# Altium footprint library CRHT-D000027.PcbLib: 23 footprints (part 1 of 2)
Each footprint in its own frame and in the unit in brackets; x right, y up, seen from the top. Pads: shape width x height; smd on the part's side, far side on the other; paste and mask are expansions set on the pad; w line width, h text height; cw(c..) or ccw(c..) is an arc to the next point about the centre after c.
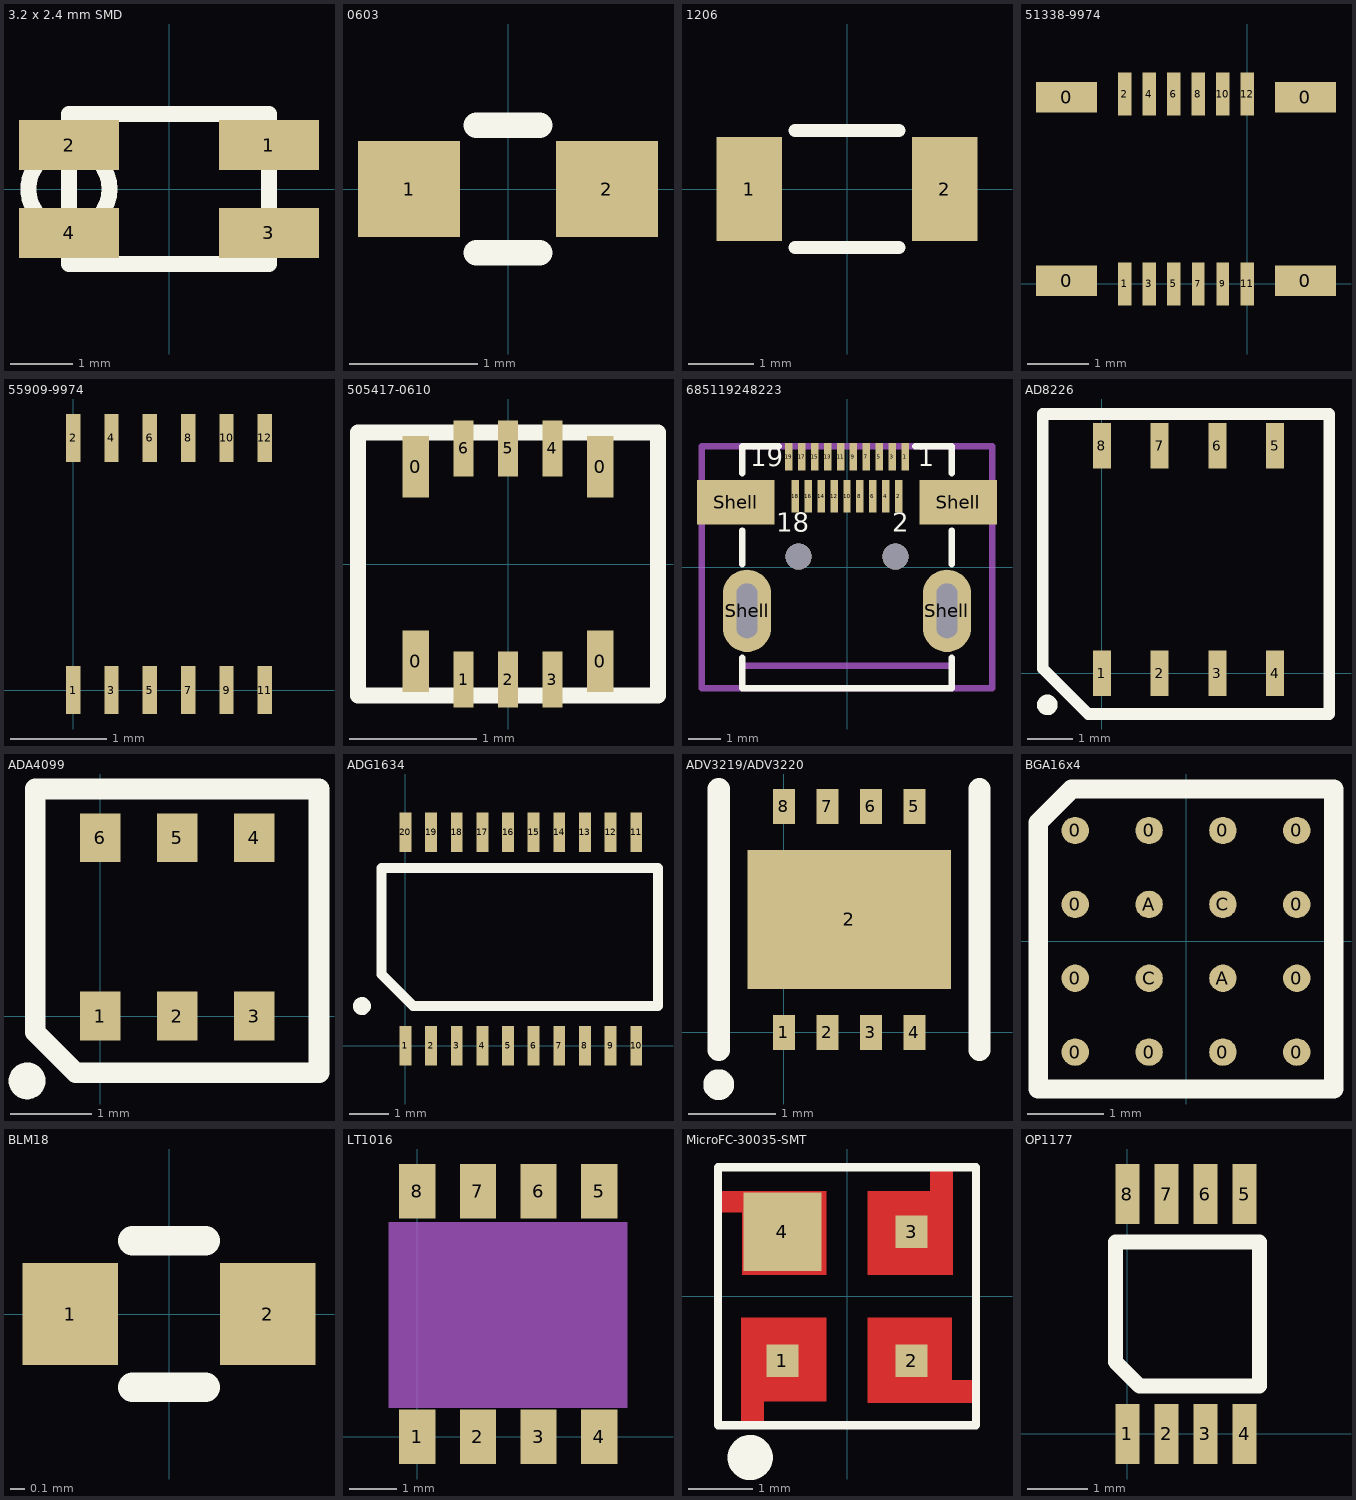
[diagram p0: the footprints below, top view; thin cyan lines are the x and y axes]

## 3.2 x 2.4 mm SMD [mm]
pads (4):
  rect 1.6x0.8 smd: 1(1.6,0.7) 2(-1.6,0.7) 3(1.6,-0.7) 4(-1.6,-0.7)
Top Overlay:
  circle w0.254: c-1.6,0 r0.65
  lines w0.254: -1.6,-1.2 1.6,-1.2 1.6,1.2 -1.6,1.2 -1.6,-1.2
3D body "CRHT-M000539 Rev01 - APBD3224ESGC-F01 3.2x2.4MM BI-COLOR RED-GRN SMD LED.STEP": height 2.41, standoff 0, extent -1.6,-1.25 1.6,1.15

## 0603 [mm]
pads (2):
  rect 0.8x0.75 smd: 1(-0.775,0) 2(0.775,0)
Top Overlay:
  lines w0.2: -0.25,-0.5 0.25,-0.5 ; -0.25,0.5 0.25,0.5

## 1206 [mm]
pads (2):
  rect 1x1.6 smd: 1(-1.5,0) 2(1.5,0)
Top Overlay:
  lines w0.2: -0.8,-0.9 0.8,-0.9 ; -0.8,0.9 0.8,0.9

## 51338-9974 [mm]
pads (16):
  rect 1x0.5 smd: 0(-2.95,0.05) 0(-2.95,3.05) 0(0.95,0.05) 0(0.95,3.05)
  rect 0.22x0.7 smd: 1(-2,0) 2(-2,3.1) 3(-1.6,0) 4(-1.6,3.1) 5(-1.2,0) 6(-1.2,3.1) 8(-0.8,3.1) 10(-0.4,3.1) 11(0,0) 12(0,3.1)
  rect 0.2x0.7 smd: 7(-0.8,0) 9(-0.4,0)

## 55909-9974 [mm]
pads (12):
  rect 0.15x0.5 smd: 1(0,0) 2(0,2.63) 3(0.4,0) 4(0.4,2.63) 5(0.8,0) 6(0.8,2.63) 7(1.2,0) 8(1.2,2.63) 9(1.6,0) 10(1.6,2.63) 11(2,0) 12(2,2.63)

## 505417-0610 [mm]
height 0.8
pads (10):
  rect 0.21x0.48 smd: 0(-0.725,-0.765) 0(-0.725,0.765) 0(0.725,-0.765) 0(0.725,0.765)
  rect 0.16x0.44 smd: 1(-0.35,-0.91) 2(0,-0.91) 3(0.35,-0.91) 4(0.35,0.91) 5(0,0.91) 6(-0.35,0.91)
Top Overlay:
  lines w0.127: -1.18,-1.035 -1.18,-0.321 -1.18,1.035 1.18,1.035 1.18,-1.035 -1.18,-1.035
3D body "5054170610.STEP": height 0.78, standoff -0.02, extent -1.18,-1 1.18,1

## 685119248223 [mm] "Micro HDMI Horizontal SMT Hybrid Mount"
height 3
pads (25):
  rect 0.23x0.85 smd: 1(1.8,3.425) 3(1.4,3.425) 5(1,3.425) 7(0.6,3.425) 9(0.2,3.425) 11(-0.2,3.425) 13(-0.6,3.425) 15(-1,3.425) 17(-1.4,3.425) 19(-1.8,3.425)
  rect 0.23x1 smd: 2(1.6,2.2) 4(1.2,2.2) 6(0.8,2.2) 8(0.4,2.2) 10(0,2.2) 12(-0.4,2.2) 14(-0.8,2.2) 16(-1.2,2.2) 18(-1.6,2.2)
  rect 2.4x1.38 smd: Shell(-3.45,2.02) Shell(3.45,2.02)
  oval 1.5x2.55 hole 0.65 slot 1.7 at 90 deg: Shell(-3.1,-1.35) Shell(3.1,-1.35)
  round 0.81 hole 0.81 unplated: ""(-1.5,0.33) ""(1.5,0.33)
Top Overlay:
  lines w0.2: -3.25,-2.81 -3.25,-3.75 3.25,-3.75 3.25,-2.81 ; -3.25,0.1 -3.25,1.14 ; -3.25,2.91 -3.25,3.75 -2.12,3.75 ; 2.12,3.75 3.25,3.75 3.25,2.91 ; 3.25,0.1 3.25,1.14
  text "2" at 1.4,0.9 h1.02
  text "18" at -2.2,0.9 h1.02
  text "19" at -3,2.938 h1.02
  text "1" at 2.2,2.938 h1.02
Mechanical 13:
  lines w0.2: -4.509,-3.75 4.509,-3.75 4.509,3.75 -4.509,3.75 -4.509,-3.75
Mechanical 15:
  lines w0.2: -3.25,-3.05 3.25,-3.05
  text "PCB Edge" at -1.794,-2.746 h0.89
3D body "685119248223.stp": height 2.99, standoff -1.11, extent -4.509,-3.75 4.509,3.755

## AD8226 [mm] "AD8226-BRZR8"
pads (8):
  rect 0.4x1 smd: 1(0,0) 2(1.27,0) 3(2.54,0) 4(3.81,0) 5(3.81,5) 6(2.54,5) 7(1.27,5) 8(0,5)
Top Overlay:
  circle w0.254: c-1.2,-0.7 r0.1
  lines w0.254: -1.3,0.1 -0.3,-0.9 5,-0.9 5,5.7 -1.3,5.7 -1.3,5.5 -1.3,0.1
Mechanical 1:
  region: -1.1,4.5
3D body: height 1.27, standoff 0, extent -1.15,0.5 4.85,4.5

## ADA4099 [mm]
pads (6):
  rect 0.5x0.6 smd: 1(0,0) 2(0.95,0) 3(1.9,0) 4(1.9,2.2) 5(0.95,2.2) 6(0,2.2)
Top Overlay:
  circle w0.254: c-0.9,-0.8 r0.1
  lines w0.254: -0.8,-0.2 -0.8,2.8 2.7,2.8 2.7,-0.7 -0.3,-0.7 -0.8,-0.2
3D body: height 1.27, standoff 0, extent -0.55,0.4 2.45,1.8

## ADG1634 [mm]
pads (20):
  rect 0.3x1 smd: 1(0,0) 2(0.65,0) 3(1.3,0) 4(1.95,0) 5(2.6,0) 6(3.25,0) 7(3.9,0) 8(4.55,0) 9(5.2,0) 10(5.85,0) 11(5.85,5.4) 12(5.2,5.4) 13(4.55,5.4) 14(3.9,5.4) 15(3.25,5.4) 16(2.6,5.4) 17(1.95,5.4) 18(1.3,5.4) 19(0.65,5.4) 20(0,5.4)
Top Overlay:
  circle w0.254: c-1.1,1 r0.1
  lines w0.254: -0.6,1.8 -0.6,4.5 6.4,4.5 6.4,1 0.2,1 -0.6,1.8
3D body: height 1.2, standoff 0, extent -0.325,0.5 6.175,4.9

## ADV3219/ADV3220 [mm]
pads (9):
  rect 0.25x0.4 smd mask+0.05: 1(0,0) 2(0.5,0) 3(1,0) 4(1.5,0) 5(1.5,2.6) 6(1,2.6) 7(0.5,2.6) 8(0,2.6)
  rect 2.34x1.6 smd: 2(0.75,1.3)
Top Overlay:
  circle w0.254: c-0.75,-0.6 r0.05
  lines w0.254: -0.75,-0.2 -0.75,2.8 ; 2.25,-0.2 2.25,2.8

## BGA16x4 [mm]
pads (16):
  round 0.36 smd: 0(-1.455,-1.455) 0(-1.455,-0.485) 0(-1.455,0.485) 0(-1.455,1.455) 0(-0.485,-1.455) 0(-0.485,1.455) 0(0.485,-1.455) 0(0.485,1.455) 0(1.455,-1.455) 0(1.455,-0.485) 0(1.455,0.485) 0(1.455,1.455) A(-0.485,0.485) A(0.485,-0.485) C(-0.485,-0.485) C(0.485,0.485)
Top Overlay:
  lines w0.254: -1.94,-1.94 -1.94,1.56 -1.5,2 1.94,2 1.94,-1.94 -1.94,-1.94

## BLM18 [mm]
pads (2):
  rect 0.65x0.7 smd: 1(-0.675,0) 2(0.675,0)
Top Overlay:
  lines w0.2: -0.25,-0.5 0.25,-0.5 ; -0.25,0.5 0.25,0.5

## LT1016 [mil]
pads (8):
  rect 30x45 smd: 1(0,0) 2(50,0) 3(100,0) 4(150,0) 5(150,202.52) 6(100,202.52) 7(50,202.52) 8(0,202.52)
Mechanical 13:
  rectangle: -23.62,23.62 173.23,177.17

## MicroFC-30035-SMT [mm]
pads (4):
  rect 0.5x0.5 smd mask+0.04: 1(-1,-1) 2(1,-1) 3(1,1)
  rect 1.21x1.21 smd: 4(-1,1)
Top Layer:
  region: -1.64,-0.33 -0.32,-0.33 -0.32,-1.63 -1.29,-1.63 -1.29,-2.05 -1.64,-2.05
  region: 0.32,-0.33 1.62,-0.33 1.62,-1.3 2.04,-1.3 2.04,-1.65 0.32,-1.65
  region: 1.64,0.33 0.32,0.33 0.32,1.63 1.29,1.63 1.29,2.05 1.64,2.05
  region: -0.32,1.63 -0.32,0.33 -1.62,0.33 -1.62,1.3 -2.04,1.3 -2.04,1.63
Top Overlay:
  circle w0.5: c-1.5,-2.5 r0.1
  lines w0.127: -2,-2 2,-2 2,2 -2,2 -2,-2
3D body "CRHT-M000540 Rev01 - MicroFC-30035 Fast Silicon Photomultiplier Sensor.STEP": height 0.65, standoff -0.02, extent -2,-2 2,2

## OP1177 [mm] "OP1177ARMZ-R7"
pads (8):
  rect 0.4x1 smd: 1(0,0) 2(0.65,0) 3(1.3,0) 4(1.95,0) 5(1.95,4) 6(1.3,4) 7(0.65,4) 8(0,4)
Top Overlay:
  lines w0.254: -0.2,1.2 0.2,0.8 2.2,0.8 2.2,3.2 -0.2,3.2 -0.2,1.2
3D body: height 1.27, standoff 0, extent -0.5,0.5 2.5,3.5